# Altium footprint library RHX-NYFK-PCB11V1.011.PcbLib: 25 footprints (part 2 of 2)
Each footprint in its own frame and in the unit in brackets; x right, y up, seen from the top. Pads: shape width x height; smd on the part's side, far side on the other; paste and mask are expansions set on the pad; w line width, h text height; cw(c..) or ccw(c..) is an arc to the next point about the centre after c.
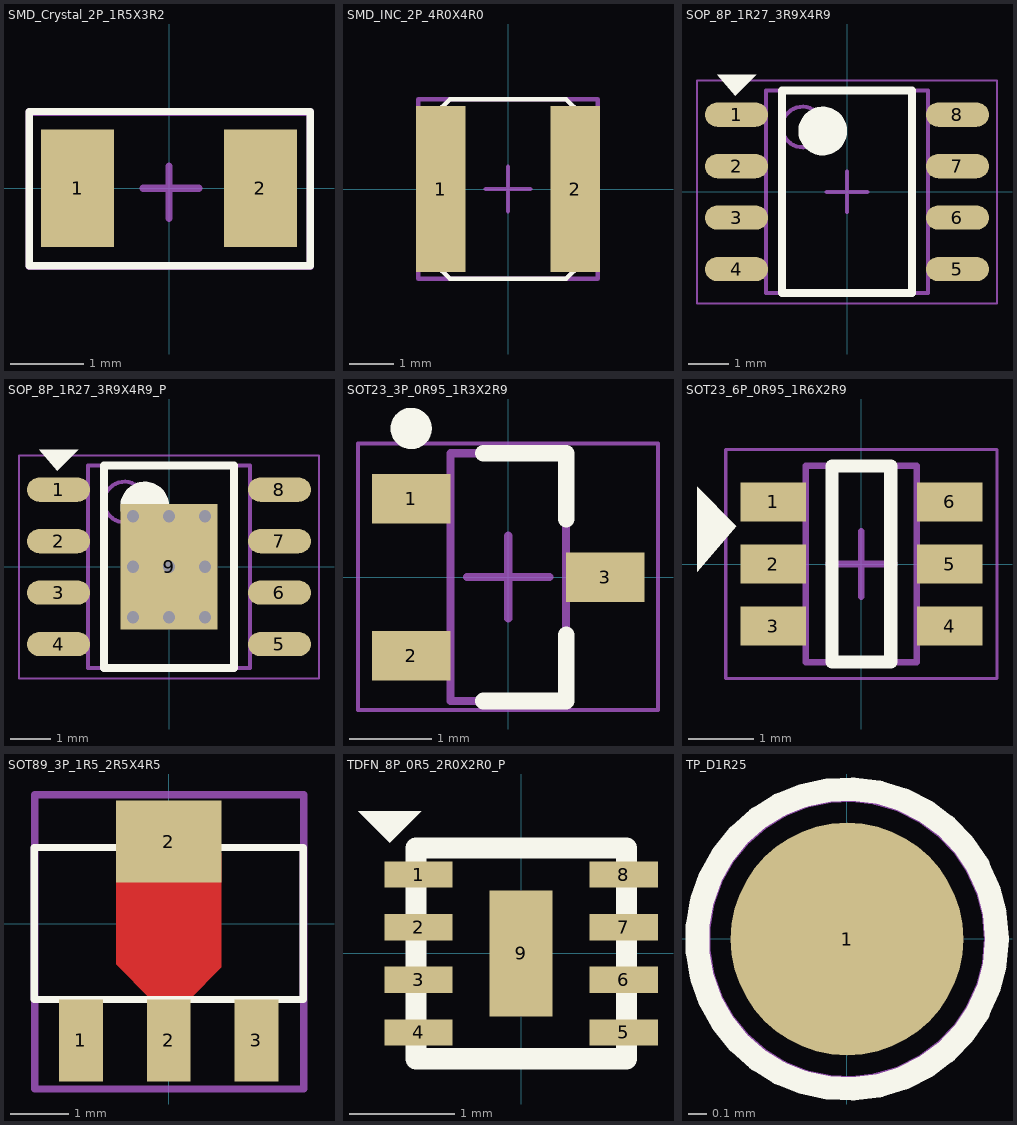
[diagram p1: the footprints below, top view; thin cyan lines are the x and y axes]

## SMD_Crystal_2P_1R5X3R2 [mm]
height 0.5
pads (2):
  rect 1x1.6 smd: 1(-1.25,0) 2(1.25,0)
Top Overlay:
  lines w0.1: -1.91,-1.06 1.93,-1.06 1.93,1.05 -1.91,1.05 -1.91,-1.06
Mechanical 13:
  lines w0.1: -1.91,-1.07 -1.91,1.04 1.93,1.04 1.93,-1.07 -1.91,-1.07
Mechanical 15:
  lines w0.1: -0.35,0 0.41,0 ; 0,-0.41 0,0.3 ; -1.91,-1.06 -1.91,1.05 1.93,1.05 1.93,-1.06 -1.91,-1.06
3D body: height 0.01, standoff 0, extent -1.91,-1.06 1.93,1.05
3D body: height 0.8, standoff 0, extent -1.6,-0.75 1.6,0.75

## SMD_INC_2P_4R0X4R0 [mm]
height 0.5
pads (2):
  rect 1.1x3.7 smd: 1(-1.5,0) 2(1.5,0)
Top Overlay:
  lines w0.1: -2,-1.7 -2,1.7 -1.6,1.7 -1.3,2 1.3,2 1.6,1.7 2,1.7 2,-1.7 1.6,-1.7 1.3,-2 -1.3,-2 -1.6,-1.7 -2,-1.7
Mechanical 13:
  lines w0.1: -2,-1.7 -1.6,-1.7 -1.3,-2 1.3,-2 1.6,-1.7 2,-1.7 2,1.7 1.6,1.7 1.3,2 -1.3,2 -1.6,1.7 -2,1.7 -2,-1.7
Mechanical 15:
  lines w0.1: -0.5,0 0.5,0 ; 0,-0.5 0,0.5 ; -2,-2 -1.3,-2 1.3,-2 2,-2 2,2 1.3,2 -1.3,2 -2,2 -2,-2
3D body: height 1.8, standoff 0, extent -2.2,-2 2.2,2

## SOP_8P_1R27_3R9X4R9 [mm] "SOP, 8-Leads, Body 4.89x3.90mm, Pitch 1.27mm,"
height 1.75
pads (8):
  oval 1.55x0.6 smd: 1(-2.725,1.905) 2(-2.725,0.635) 3(-2.725,-0.635) 4(-2.725,-1.905) 5(2.725,-1.905) 6(2.725,-0.635) 7(2.725,0.635) 8(2.725,1.905)
Top Overlay:
  circle w0.6: c-0.6,1.5 r0.3
  region: -3.2,2.89 -2.24,2.89 -2.76,2.37
  lines w0.2: -1.6,-2.5 -1.6,2.5 1.6,2.5 1.6,-2.5 -1.6,-2.5
Mechanical 13:
  circle w0.1: c-1.1,1.6 r0.5
  lines w0.1: -2,-2.5 -2,2.5 2,2.5 2,-2.5 -2,-2.5
Mechanical 15:
  lines w0.05: -3.7,-2.75 -3.7,2.75 3.7,2.75 3.7,-2.75 -3.7,-2.75
  lines w0.1: -0.5,0 0.5,0 ; 0,-0.5 0,0.5
3D body: height 0.01, standoff 0, extent -3.7,-2.75 3.7,2.75
3D body: height 1.75, standoff 0, extent -3.1,-2.5 3.1,2.5

## SOP_8P_1R27_3R9X4R9_P [mm] "SOP, 8-Leads, Body 4.89x3.90mm, Pitch 1.27mm, IPC Me"
height 1.7
pads (9):
  oval 1.55x0.6 smd: 1(-2.725,1.905) 2(-2.725,0.635) 3(-2.725,-0.635) 4(-2.725,-1.905) 5(2.725,-1.905) 6(2.725,-0.635) 7(2.725,0.635) 8(2.725,1.905)
  rect 2.4x3.1 smd: 9(0,0)
via 0,0 diameter 0.457 hole 0.305
via -0.889,1.245 diameter 0.457 hole 0.305
via -0.889,0 diameter 0.457 hole 0.305
via -0.889,-1.245 diameter 0.457 hole 0.305
via 0,-1.245 diameter 0.457 hole 0.305
via 0.889,-1.245 diameter 0.457 hole 0.305
via 0.889,0 diameter 0.457 hole 0.305
via 0.889,1.245 diameter 0.457 hole 0.305
via 0,1.245 diameter 0.457 hole 0.305
Top Overlay:
  circle w0.6: c-0.6,1.5 r0.3
  region: -3.2,2.89 -2.24,2.89 -2.76,2.37
  lines w0.2: -1.6,-2.5 -1.6,2.5 1.6,2.5 1.6,-2.5 -1.6,-2.5
Mechanical 13:
  circle w0.1: c-1.1,1.6 r0.5
  lines w0.1: -2,-2.5 -2,2.5 2,2.5 2,-2.5 -2,-2.5
Mechanical 15:
  lines w0.05: -3.7,-2.75 -3.7,2.75 3.7,2.75 3.7,-2.75 -3.7,-2.75
  lines w0.1: -0.5,0 0.5,0 ; 0,-0.5 0,0.5
3D body: height 0.01, standoff 0, extent -3.7,-2.75 3.7,2.75
3D body: height 1.75, standoff 0, extent -3.1,-2.5 3.1,2.5

## SOT23_3P_0R95_1R3X2R9 [mm] "SOT23, 3-Leads, Body 2.90x2.40mm, Pitch 0.95mm, IPC Me"
height 1.15
pads (3):
  rect 0.95x0.6 smd: 1(-1.175,0.95) 2(-1.175,-0.95) 3(1.175,0)
Top Overlay:
  circle w0.25: c-1.175,1.8 r0.125
  lines w0.2: -0.3,-1.5 0.7,-1.5 0.7,-0.7 ; -0.3,1.5 0.7,1.5 0.7,0.7
Mechanical 13:
  lines w0.1: -0.7,-1.5 0.7,-1.5 0.7,1.5 -0.7,1.5 -0.7,-1.5
Mechanical 15:
  lines w0.05: -1.819,-1.608 1.814,-1.608 1.814,1.618 -1.819,1.618 -1.819,-1.608
  lines w0.1: -0.5,0 0.5,0 ; 0,-0.5 0,0.5
3D body: height 0.01, standoff 0, extent -1.819,-1.608 1.814,1.618
3D body: height 1.3, standoff 0, extent -1.624,-1.487 1.376,1.513

## SOT23_6P_0R95_1R6X2R9 [mm] "SOT23, 6-Leads, Body 2.90x2.75mm, Pitch 0.95mm, IPC Me"
height 1.2
pads (6):
  rect 1x0.6 smd: 1(-1.35,0.95) 2(-1.35,0) 3(-1.35,-0.95) 4(1.35,-0.95) 5(1.35,0) 6(1.35,0.95)
Top Overlay:
  region: -2.514,-0.122 -2.514,1.178 -1.914,0.578
  lines w0.2: -0.45,-1.5 -0.45,1.5 0.45,1.5 0.45,-1.5 -0.45,-1.5
Mechanical 13:
  lines w0.1: -0.85,-1.5 0.85,-1.5 0.85,1.5 -0.85,1.5 -0.85,-1.5
Mechanical 15:
  lines w0.05: -2.075,-1.75 2.075,-1.75 2.075,1.75 -2.075,1.75 -2.075,-1.75
  lines w0.1: -0.5,0 0.5,0 ; 0,-0.5 0,0.5
3D body: height 1.3, standoff 0, extent -1.5,-1.5 1.5,1.5

## SOT89_3P_1R5_2R5X4R5 [mm]
height 0.5
pads (4):
  rect 0.75x1.4 smd: 1(-1.5,-2) 2(0,-2) 3(1.5,-2)
  rect 1.8x1.4 smd: 2(0,1.4)
Top Layer:
  region: -0.9,1.1 -0.9,-0.7 -0.3,-1.3 0.35,-1.3 0.9,-0.75 0.9,1.2
Top Overlay:
  lines w0.125: -2.3,-1.3 -2.3,1.3 2.3,1.3 2.3,-1.3 -2.3,-1.3
Top Paste:
  region: -0.9,1.1 -0.9,-0.7 -0.3,-1.3 0.35,-1.3 0.9,-0.75 0.9,1.2
Top Solder:
  region: -1,1.094 -1,-0.7 -0.4,-1.3 0.4,-1.3 1,-0.7 1,1.206
Mechanical 13:
  lines w0.125: -2.3,-1.3 2.3,-1.3 2.3,1.3 -2.3,1.3 -2.3,-1.3
Mechanical 15:
  lines w0.125: -2.29,-2.83 2.31,-2.83 2.31,2.2 -2.29,2.2 -2.29,-2.83
3D body: height 0.01, standoff 0, extent -2.29,-2.83 2.31,2.1
3D body: height 1.7, standoff 0, extent -2.349,-2.75 2.35,1.7

## TDFN_8P_0R5_2R0X2R0_P [mm]
height 0.5
pads (9):
  rect 0.65x0.25 smd: 1(-0.975,0.75) 2(-0.975,0.25) 3(-0.975,-0.25) 4(-0.975,-0.75) 5(0.975,-0.75) 6(0.975,-0.25) 7(0.975,0.25) 8(0.975,0.75)
  rect 0.6x1.2 smd: 9(0,0)
Top Overlay:
  region: -1.55,1.35 -0.95,1.35 -1.25,1.05
  lines w0.2: -1,-1 1,-1 1,1 -1,1 -1,-1
3D body: height 1.04, standoff 0.09, extent -1.08,-1.01 1.02,0.99

## TP_D1R25 [mm]
height 0.5
pads (1):
  round 1.25 smd paste-1.25: 1(0,0)
Top Overlay:
  circle w0.127: c0,0 r0.806
Mechanical 13:
  circle w0.127: c0,0 r0.8
Mechanical 15:
  circle w0.127: c0,0 r0.8
3D body: height 0.01, standoff 0, extent -0.8,-0.8 0.8,0.8